# Altium schematic symbol library BFP620F.SchLib: 1 symbol
Pins are listed as number, name and electrical type; pins without a type are passive.

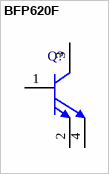
[diagram p0: symbol BFP620F]

## BFP620F
designator Q?
NPN Silicon Germanium RF Transistor, 2.3 V VCEO, 80 mA IC, 21 dB Gmax, TSFP-4-1, Green; Manufacturer: Infineon; PartNumber: BFP620F; Gmax (typ): 21 dB; Green: yes; Group: Ultra low noise SiGe; IC (max): 80 mA; NFmin (typ): 0.7 dB; Ptot (max): 185mW; VCEO (max): 2.3 V; DatasheetVersion: Apr-2007; PackageReference: TSFP-4-1; PackageDescription: 4-Pin Thin Small Flat Package, 0.8 x 1.4 mm Body, 0.5 mm Pitch; Supplier 1: Mouser; Supplier Part Number 1: N/A; Halogen-free: yes; Mounting Technology: Surface Mount; ComponentLink1Description: Manufacturer URL; ComponentLink1URL: http://www.infineon.com/; ComponentLink2Description: Datasheet; ComponentLink2URL: http://www.infineon.com/dgdl/bfp620f.pdf?folderId=db3a30431400ef68011425b291f205c5&fileId=db3a30431400ef680114274ce64f0729&location=en.Products.RF.RF_Transistors_.Ultra_Low_Noise_SiGe_C_Transistors_for_use_up_to_12_GHz.DATASHEET.bfp620f.pdf; ComponentLink3Description: Package Specification; ComponentLink3URL: http://www.infineon.com/dgdl/TSFP-4-1%2C-2-Package_Overview.pdf?folderId=db3a30431936bc4b011953b7d203683d&fileId=db3a30431936bc4b011953c249663734
footprint INF-TSFP-4-1_V (SOP-Flat, Body 0.8x1.4 mm, Pitch 1 mm)
pins: 1 B, 2 E, 3 C, 4 E